# EAGLE library part MINI-B (library J-USB)
USB-MB-H tested by rsutherland@epccs.com MINI-B [MOLEX,54819-0519] USB MINI-B THROUGH HOLE
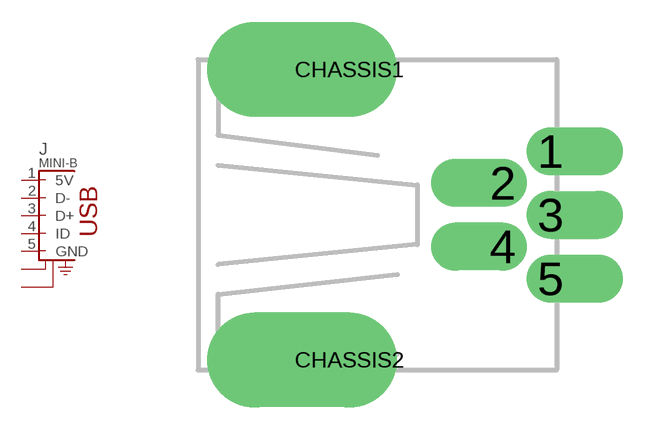
[diagram p0: symbol with the pads of USB-MB-H; footprint USB-MB-H]

Designator prefix J

## MINI-B-MB-H  [USB-MB-H]
1  5V
2  D-
3  D+
4  ID
5  GND
CHASSIS1  CHASSIS1
CHASSIS2  CHASSIS2

## Footprint USB-MB-H (pad centres in mm)
USB Series Mini-B Hole Mounted MINI-B [MOLEX,54819-0519] USB MINI-B THROUGH HOLE slots are a problem, there needs to be a better way to define them
drill 0.7 pad 1.016 offset: 1 5.05,1.6; 2 3.85,0.8; 3 5.05,0; 4 3.85,-0.8; 5 5.05,-1.6
drill 1.587 pad 2.184 offset: CHASSIS1 0,3.65; CHASSIS2 0,-3.65